# EAGLE library part 693072010801 (library MicroUSB)
WR-CRD MICRO SD CARD CONNECTOR HINGE 8PINS
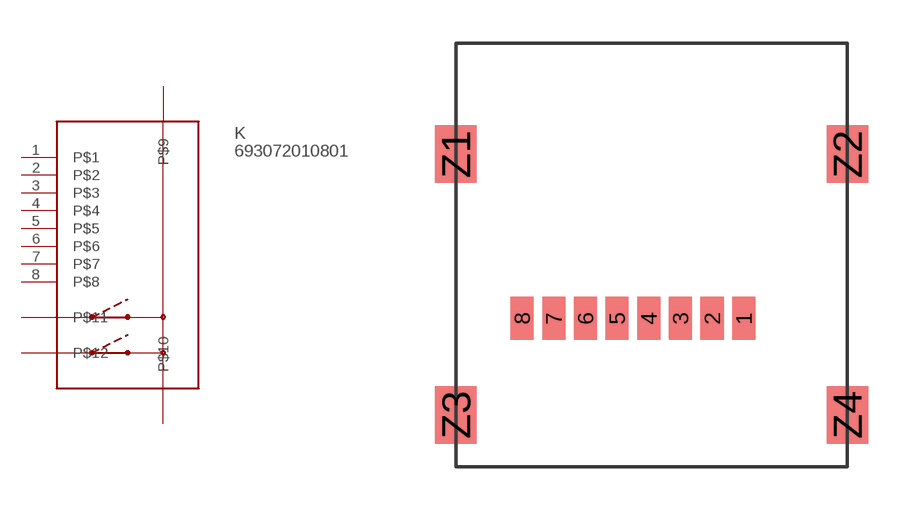
[diagram p29: symbol with the pads of 693072010801; footprint 693072010801]

Designator prefix K

## 693072010801  [693072010801]
1  P$1
2  P$2
3  P$3
4  P$4
5  P$5
6  P$6
7  P$7
8  P$8

## Footprint 693072010801 (pad centres in mm)
WR-CRD MICRO SD CARD CONNECTOR HINGE 8PINS
smd 0.8 x 1.5: 1 7.7,0; 2 6.6,0; 3 5.5,0; 4 4.4,0; 5 3.3,0; 6 2.2,0; 7 1.1,0; 8 0,0
smd 1.45 x 2: Z1 -2.3,5.7; Z2 11.3,5.7; Z3 -2.3,-3.35; Z4 11.3,-3.35